# EAGLE library part AT45DB321 (library flashmemory)
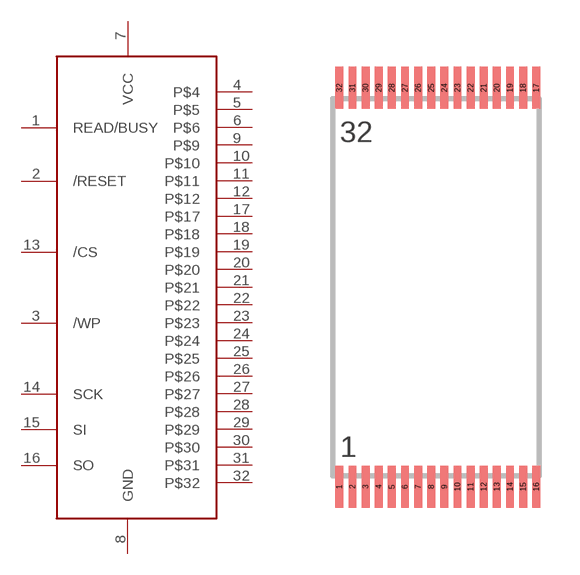
[diagram p1: symbol with the pads of TSOP-32PIN; footprint TSOP-32PIN]

Designator prefix -

## AT45DB321  [TSOP-32PIN]
1  READ/BUSY  out
2  /RESET  in
3  /WP  in
4  P$4  nc
5  P$5  nc
6  P$6  nc
7  VCC  pwr
8  GND  pwr
9  P$9  nc
10  P$10  nc
11  P$11  nc
12  P$12  nc
13  /CS  in
14  SCK  in
15  SI  in
16  SO  in
17  P$17  nc
18  P$18  nc
19  P$19  nc
20  P$20  nc
21  P$21  nc
22  P$22  nc
23  P$23  nc
24  P$24  nc
25  P$25  nc
26  P$26  nc
27  P$27  nc
28  P$28  nc
29  P$29  nc
30  P$30  nc
31  P$31  nc
32  P$32  nc

## Footprint TSOP-32PIN (pad centres in mm)
smd 0.3 x 1.6: 1 -4.607,-7.6; 2 -4.107,-7.6; 3 -3.607,-7.6; 4 -3.107,-7.6; 5 -2.607,-7.6; 6 -2.107,-7.6; 7 -1.607,-7.6; 8 -1.107,-7.6; 9 -0.607,-7.6; 10 -0.107,-7.6; 11 0.393,-7.6; 12 0.893,-7.6; 13 1.393,-7.6; 14 1.893,-7.6; 15 2.393,-7.6; 16 2.893,-7.6; 17 2.893,7.6; 18 2.393,7.6; 19 1.893,7.6; 20 1.393,7.6; 21 0.893,7.6; 22 0.393,7.6; 23 -0.107,7.6; 24 -0.607,7.6; 25 -1.107,7.6; 26 -1.607,7.6; 27 -2.107,7.6; 28 -2.607,7.6; 29 -3.107,7.6; 30 -3.607,7.6; 31 -4.107,7.6; 32 -4.607,7.6